# Altium schematic symbol library Connector.SchLib: 37 symbols
Pins are listed as number, name and electrical type; pins without a type are passive.

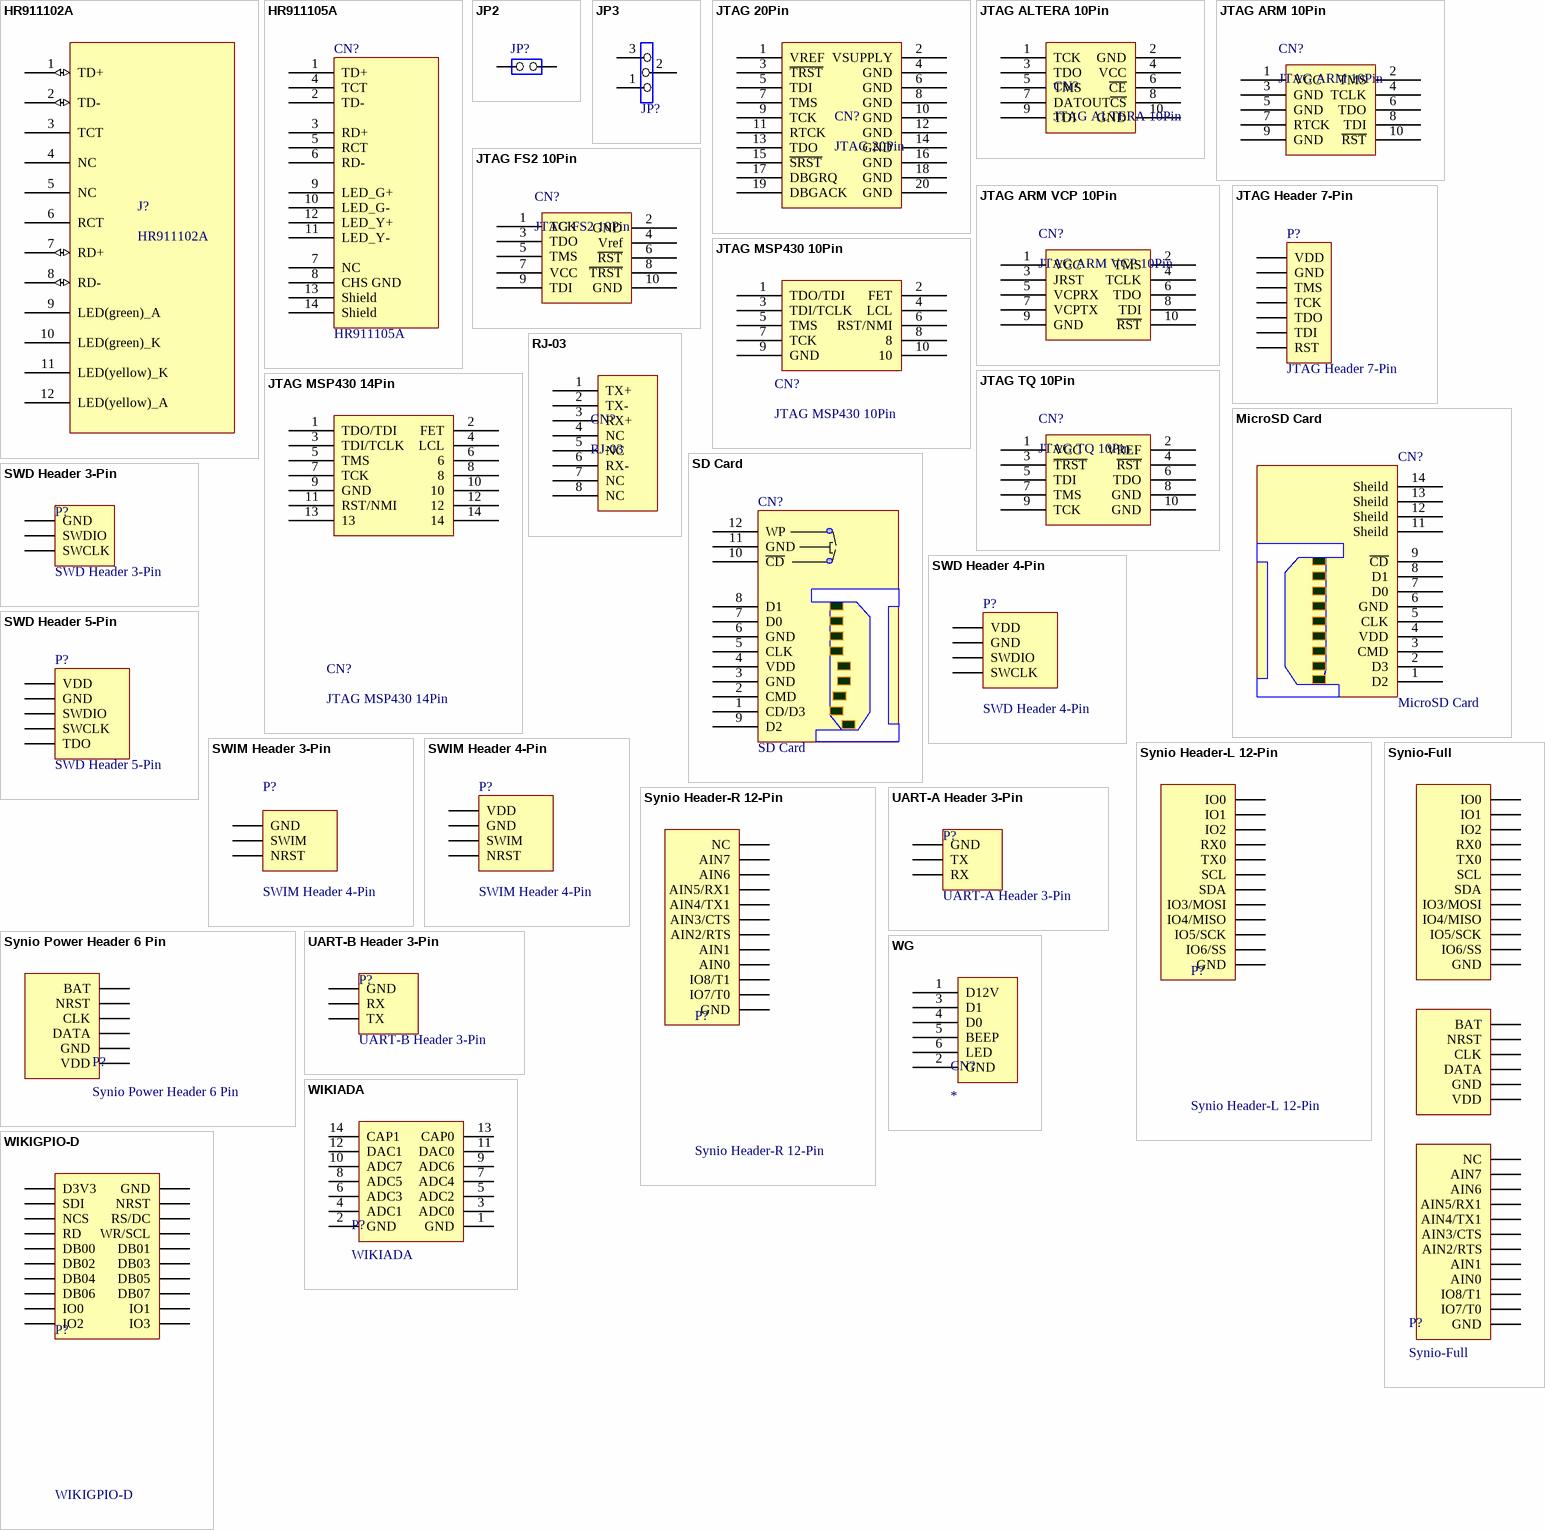
[diagram p0: symbols HR911102A to WIKIGPIO-D]

## HR911102A
designator J?
RJ45 From Hanren
pins: 1 TD+ (io), 2 TD- (io), 3 TCT, 4 NC, 5 NC, 6 RCT, 7 RD+ (io), 8 RD- (io), 9 LED(green)_A, 10 LED(green)_K, 11 LED(yellow)_K, 12 LED(yellow)_A

## HR911105A
designator CN?
RJ45 From Hanren
footprint HR911105A (HanRun RJ45)
pins: 1 TD+, 2 TD-, 3 RD+, 4 TCT, 5 RCT, 6 RD-, 7 NC, 8 CHS GND, 9 LED_G+, 10 LED_G-, 11 LED_Y-, 12 LED_Y+, 13 Shield, 14 Shield

## JP2
designator JP?
footprint SIP2 (Footprint not found)
pins: 1 COMMON, 2 NO

## JP3
designator JP?
footprint SIP3 (Footprint not found)
footprint JUMPER3_SMD
pins: 1, 2, 3

## JTAG 20Pin
designator CN?
20Pin JTAG CONNECTOR
footprint DC3/20P/2.54mm
pins: 1 VREF, 2 VSUPPLY, 3 ~{TRST}, 4 GND, 5 TDI, 6 GND, 7 TMS, 8 GND, 9 TCK, 10 GND, 11 RTCK, 12 GND, 13 TDO, 14 GND, 15 ~{SRST}, 16 GND, 17 DBGRQ, 18 GND, 19 DBGACK, 20 GND

## JTAG ALTERA 10Pin
designator CN?
10Pin JTAG CONNECTOR
footprint DC3/10P/2.54MM
pins: 1 TCK, 2 GND, 3 TDO, 4 VCC, 5 TMS, 6 ~{CE}, 7 DATOUT, 8 ~{CS}, 9 TDI, 10 GND

## JTAG ARM 10Pin
designator CN?
10Pin JTAG CONNECTOR
pins: 1 VCC, 2 TMS, 3 GND, 4 TCLK, 5 GND, 6 TDO, 7 RTCK, 8 TDI, 9 GND, 10 ~{RST}

## JTAG ARM VCP 10Pin
designator CN?
10Pin JTAG VCP CONNECTOR
pins: 1 VCC, 2 TMS, 3 JRST, 4 TCLK, 5 VCPRX, 6 TDO, 7 VCPTX, 8 TDI, 9 GND, 10 ~{RST}

## JTAG FS2 10Pin
designator CN?
10Pin JTAG CONNECTOR
pins: 1 TCK, 2 GND, 3 TDO, 4 Vref, 5 TMS, 6 ~{RST}, 7 VCC, 8 ~{TRST}, 9 TDI, 10 GND

## JTAG Header 7-Pin
designator P?
Header, 7-Pin; LatestRevisionDate: 17-Jul-2002; LatestRevisionNote: Re-released for DXP Platform.; Publisher: Altium Limited
footprint HDR1X7/2.54MM (Connector; Header; 7 Position)
signal-integrity model Connector
pins: 1 VDD, 2 GND, 3 TMS, 4 TCK, 5 TDO, 6 TDI, 7 RST

## JTAG MSP430 10Pin
designator CN?
footprint DC3/10P/2.0mm
pins: 1 TDO/TDI, 2 FET, 3 TDI/TCLK, 4 LCL, 5 TMS, 6 RST/NMI, 7 TCK, 8, 9 GND, 10

## JTAG MSP430 14Pin
designator CN?
footprint DC3/14P/2.54MM
pins: 1 TDO/TDI, 2 FET, 3 TDI/TCLK, 4 LCL, 5 TMS, 6, 7 TCK, 8, 9 GND, 10, 11 RST/NMI, 12, 13, 14

## JTAG TQ 10Pin
designator CN?
10Pin JTAG CONNECTOR
footprint DC3/10P/2.0mm
pins: 1 VCC, 2 VREF, 3 ~{TRST}, 4 ~{RST}, 5 TDI, 6 TDO, 7 TMS, 8 GND, 9 TCK, 10 GND

## MicroSD Card
designator CN?
footprint MicroSD
pins: 1 D2, 2 D3, 3 CMD, 4 VDD, 5 CLK, 6 GND, 7 D0, 8 D1, 9 ~{CD}, 11 Sheild, 12 Sheild, 13 Sheild, 14 Sheild

## RJ-03
designator CN?
footprint RJ-03
pins: 1 TX+, 2 TX-, 3 RX+, 4 NC, 5 NC, 6 RX-, 7 NC, 8 NC

## SD Card
designator CN?
footprint sd1
pins: 1 CD/D3, 2 CMD, 3 GND, 4 VDD, 5 CLK, 6 GND, 7 D0, 8 D1, 9 D2, 10 ~{CD}, 11 GND, 12 WP

## SWD Header 3-Pin
designator P?
Header, 3-Pin; LatestRevisionDate: 17-Jul-2002; LatestRevisionNote: Re-released for DXP Platform.; Publisher: Altium Limited
footprint HDR1X3/2.54MM (Footprint not found)
signal-integrity model Connector
pins: 1 GND, 2 SWDIO, 3 SWCLK

## SWD Header 4-Pin
designator P?
Header, 4-Pin; LatestRevisionDate: 17-Jul-2002; LatestRevisionNote: Re-released for DXP Platform.; Publisher: Altium Limited
footprint HDR1X4/2.54MM
signal-integrity model Connector
pins: 1 VDD, 2 GND, 3 SWDIO, 4 SWCLK

## SWD Header 5-Pin
designator P?
Header, 5-Pin; LatestRevisionDate: 17-Jul-2002; LatestRevisionNote: Re-released for DXP Platform.; Publisher: Altium Limited
footprint HDR1X4/2.54MM
signal-integrity model Connector
pins: 1 VDD, 2 GND, 3 SWDIO, 4 SWCLK, 4 TDO

## SWIM Header 3-Pin
designator P?, comment SWIM Header 4-Pin
Header, 3-Pin; LatestRevisionDate: 17-Jul-2002; LatestRevisionNote: Re-released for DXP Platform.; Publisher: Altium Limited
footprint HDR1X3/2.54mm
signal-integrity model Connector
pins: 1 GND, 2 SWIM, 3 NRST

## SWIM Header 4-Pin
designator P?
Header, 4-Pin; LatestRevisionDate: 17-Jul-2002; LatestRevisionNote: Re-released for DXP Platform.; Publisher: Altium Limited
footprint HDR1X4/2.54MM
signal-integrity model Connector
pins: 1 VDD, 2 GND, 3 SWIM, 4 NRST

## Synio Header-L 12-Pin
designator P?
Synio Header-L, 12-Pin; LatestRevisionDate: 17-Jul-2002; LatestRevisionNote: Re-released for DXP Platform.; Publisher: Altium Limited
footprint HDR1X12/2.54MM (Connector; Header; 12 Position)
signal-integrity model Connector
pins: 1 GND, 2 IO6/SS, 3 IO5/SCK, 4 IO4/MISO, 5 IO3/MOSI, 6 SDA, 7 SCL, 8 TX0, 9 RX0, 10 IO2, 11 IO1, 12 IO0

## Synio Header-R 12-Pin
designator P?
Synio Header-R, 12-Pin; LatestRevisionDate: 17-Jul-2002; LatestRevisionNote: Re-released for DXP Platform.; Publisher: Altium Limited
footprint HDR1X12/2.54MM (Connector; Header; 12 Position)
signal-integrity model Connector
pins: 1 GND, 2 IO7/T0, 3 IO8/T1, 4 AIN0, 5 AIN1, 6 AIN2/RTS, 7 AIN3/CTS, 8 AIN4/TX1, 9 AIN5/RX1, 10 AIN6, 11 AIN7, 12 NC

## Synio Power Header 6 Pin
designator P?
footprint HDR1X6/2.54MM (Connector; Header; 6 Position)
pins: 1 VDD, 2 GND, 3 DATA, 4 CLK, 5 NRST, 6 BAT

## Synio-Full
designator P?
Synio-Full Header
footprint Synio-Full
pins: 1 IO0, 2 IO1, 3 IO2, 4 RX0, 5 TX0, 6 SCL, 7 SDA, 8 IO3/MOSI, 9 IO4/MISO, 10 IO5/SCK, 11 IO6/SS, 12 GND, 13 BAT, 14 NRST, 15 CLK, 16 DATA, 17 GND, 18 VDD, 19 GND, 20 IO7/T0, 21 IO8/T1, 22 AIN0, 23 AIN1, 24 AIN2/RTS, 25 AIN3/CTS, 26 AIN4/TX1, 27 AIN5/RX1, 28 AIN6, 29 AIN7, 30 NC

## UART-A Header 3-Pin
designator P?
Header, 3-Pin; LatestRevisionDate: 17-Jul-2002; LatestRevisionNote: Re-released for DXP Platform.; Publisher: Altium Limited
footprint HDR1X3/2.54mm (Footprint not found)
signal-integrity model Connector
pins: 1 GND, 2 TX, 3 RX

## UART-B Header 3-Pin
designator P?
Header, 3-Pin; LatestRevisionDate: 17-Jul-2002; LatestRevisionNote: Re-released for DXP Platform.; Publisher: Altium Limited
footprint HDR1X3/2.54mm (Footprint not found)
signal-integrity model Connector
pins: 1 GND, 2 RX, 3 TX

## WG
designator CN?
Weigand Connector
pins: 1 D12V, 2 GND, 3 D1, 4 D0, 5 BEEP, 6 LED

## WIKIADA
designator P?
Header, 14-Pin, Dual row
footprint WIKIADA (Connector; Header; 7x2 Position)
pins: 1 GND, 2 GND, 3 ADC0, 4 ADC1, 5 ADC2, 6 ADC3, 7 ADC4, 8 ADC5, 9 ADC6, 10 ADC7, 11 DAC0, 12 DAC1, 13 CAP0, 14 CAP1

## WIKIGPIO-D
designator P?
Header, 9-Pin, Dual row; LatestRevisionDate: 17-Jul-2002; LatestRevisionNote: Re-released for DXP Platform.; Publisher: Altium Limited
signal-integrity model Connector
footprint WIKIGPIO-U (Connector; Header; 9x2 Position)
pins: 1 D3V3, 2 GND, 3 SDI, 4 NRST, 5 NCS, 6 RS/DC, 7 RD, 8 WR/SCL, 9 DB00, 10 DB01, 11 DB02, 12 DB03, 13 DB04, 14 DB05, 15 DB06, 16 DB07, 17 IO0, 18 IO1, 19 IO2, 20 IO3

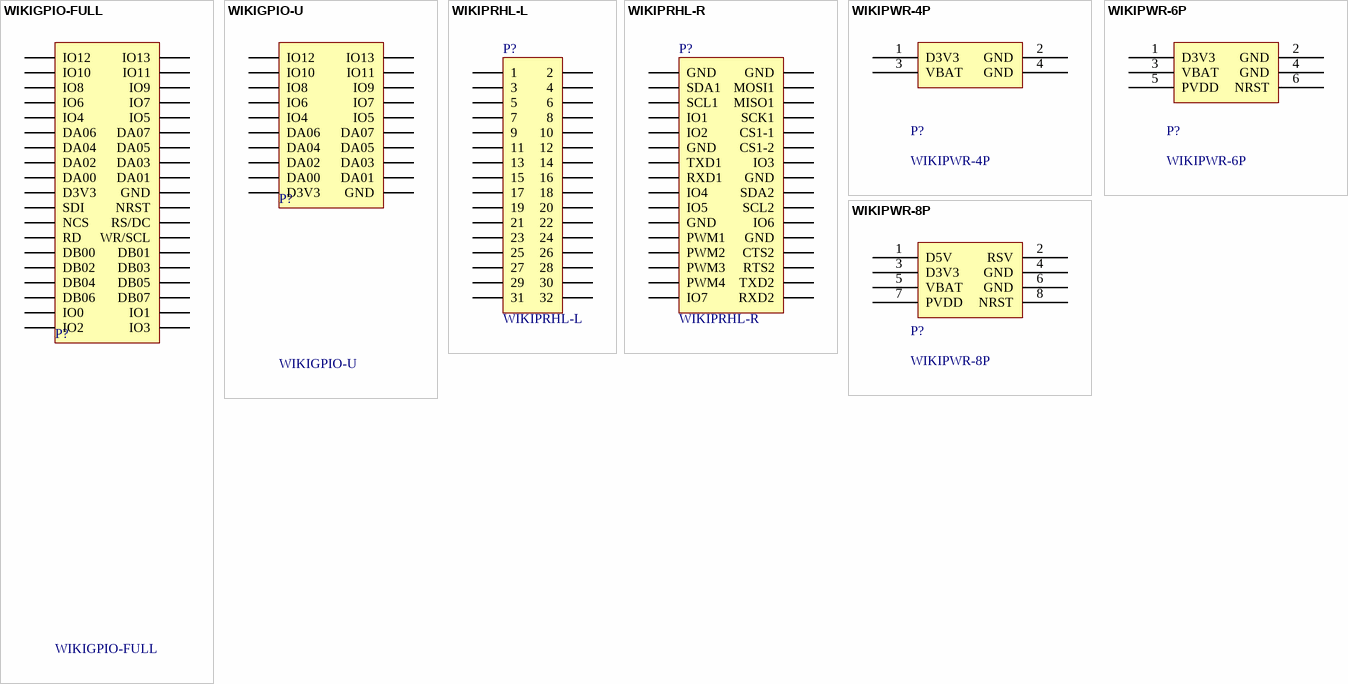
[diagram p1: symbols WIKIGPIO-FULL to WIKIPWR-8P]

## WIKIGPIO-FULL
designator P?
Header, 19-Pin, Dual row; LatestRevisionDate: 17-Jul-2002; LatestRevisionNote: Re-released for DXP Platform.; Publisher: Altium Limited
signal-integrity model Connector
footprint WIKIGPIO-FULL (Connector; Header; 19x2 Position)
pins: 1 IO12, 2 IO13, 3 IO10, 4 IO11, 5 IO8, 6 IO9, 7 IO6, 8 IO7, 9 IO4, 10 IO5, 11 DA06, 12 DA07, 13 DA04, 14 DA05, 15 DA02, 16 DA03, 17 DA00, 18 DA01, 19 D3V3, 20 GND, 21 SDI, 22 NRST, 23 NCS, 24 RS/DC, 25 RD, 26 WR/SCL, 27 DB00, 28 DB01, 29 DB02, 30 DB03, 31 DB04, 32 DB05, 33 DB06, 34 DB07, 35 IO0, 36 IO1, 37 IO2, 38 IO3

## WIKIGPIO-U
designator P?
Header, 9-Pin, Dual row; LatestRevisionDate: 17-Jul-2002; LatestRevisionNote: Re-released for DXP Platform.; Publisher: Altium Limited
signal-integrity model Connector
footprint WIKIGPIO-D (Connector; Header; 9x2 Position)
pins: 1 IO12, 2 IO13, 3 IO10, 4 IO11, 5 IO8, 6 IO9, 7 IO6, 8 IO7, 9 IO4, 10 IO5, 11 DA06, 12 DA07, 13 DA04, 14 DA05, 15 DA02, 16 DA03, 17 DA00, 18 DA01, 19 D3V3, 20 GND

## WIKIPRHL-L
designator P?
Header, 16-Pin, Dual row; LatestRevisionDate: 17-Jul-2002; LatestRevisionNote: Re-released for DXP Platform.; Publisher: Altium Limited
signal-integrity model Connector
footprint WIKIPRHL-L (Footprint not found)
pins: 1, 2, 3, 4, 5, 6, 7, 8, 9, 10, 11, 12, 13, 14, 15, 16, 17, 18, 19, 20, 21, 22, 23, 24, 25, 26, 27, 28, 29, 30, 31, 32

## WIKIPRHL-R
designator P?
Header, 16-Pin, Dual row; LatestRevisionDate: 17-Jul-2002; LatestRevisionNote: Re-released for DXP Platform.; Publisher: Altium Limited
signal-integrity model Connector
footprint WIKIPRHL-R (Connector; Header; 16x2 Position)
pins: 1 GND, 2 GND, 3 SDA1, 4 MOSI1, 5 SCL1, 6 MISO1, 7 IO1, 8 SCK1, 9 IO2, 10 CS1-1, 11 GND, 12 CS1-2, 13 TXD1, 14 IO3, 15 RXD1, 16 GND, 17 IO4, 18 SDA2, 19 IO5, 20 SCL2, 21 GND, 22 IO6, 23 PWM1, 24 GND, 25 PWM2, 26 CTS2, 27 PWM3, 28 RTS2, 29 PWM4, 30 TXD2, 31 IO7, 32 RXD2

## WIKIPWR-4P
designator P?
PWR HDR
footprint WIKIPWR-4P (Connector; Header; 2x2 Position)
pins: 1 D3V3, 2 GND, 3 VBAT, 4 GND

## WIKIPWR-6P
designator P?
PWR HDR
footprint WIKIPWR-6P (Connector; Header; 3x2 Position)
pins: 1 D3V3, 2 GND, 3 VBAT, 4 GND, 5 PVDD, 6 NRST

## WIKIPWR-8P
designator P?
PWR HDR
footprint WIKIPWR-8P (Connector; Header; 4x2 Position)
pins: 1 D5V, 2 RSV, 3 D3V3, 4 GND, 5 VBAT, 6 GND, 7 PVDD, 8 NRST